# EAGLE library part DAC8168ICPW (library dac8168-16)
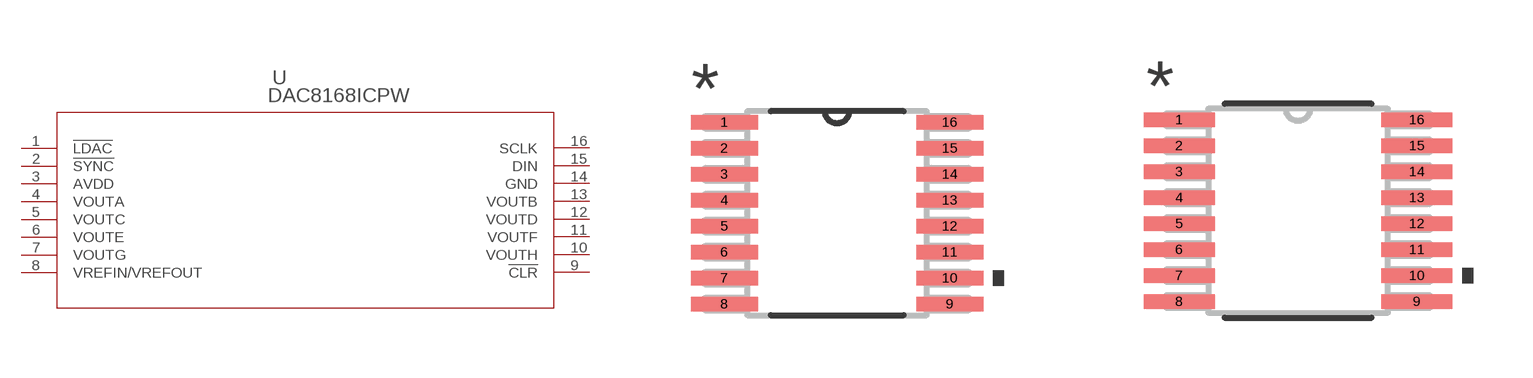
[diagram p0: symbol with the pads of PW16; footprints PW16, PW16-M]

Designator prefix U

## DAC8168ICPWPW16 (Copyright: Copyright (C) 2022 Ultra Librarian. All rights reserved.; Manufacturer_Part_Number: DAC8168ICPW; Mfr_Name: Texas Instruments)  [PW16]
1  !LDAC  pas
2  !SYNC  in
3  AVDD  pwr
4  VOUTA  out
5  VOUTC  out
6  VOUTE  out
7  VOUTG  out
8  VREFIN/VREFOUT
9  !CLR  in
10  VOUTH  out
11  VOUTF  out
12  VOUTD  out
13  VOUTB  out
14  GND  pwr
15  DIN  in
16  SCLK  in

## DAC8168ICPWPW16-M (Copyright: Copyright (C) 2022 Ultra Librarian. All rights reserved.; Manufacturer_Part_Number: DAC8168ICPW; Mfr_Name: Texas Instruments)  [PW16-M]
Pads as for PW16

## DAC8168ICPWPW16-L (Copyright: Copyright (C) 2022 Ultra Librarian. All rights reserved.; Manufacturer_Part_Number: DAC8168ICPW; Mfr_Name: Texas Instruments)  [PW16-L]
Pads as for PW16

## Footprint PW16 (pad centres in mm)
smd 1.676 x 0.356: 1 -2.819,2.275; 2 -2.819,1.625; 3 -2.819,0.975; 4 -2.819,0.325; 5 -2.819,-0.325; 6 -2.819,-0.975; 7 -2.819,-1.625; 8 -2.819,-2.275; 9 2.819,-2.275; 10 2.819,-1.625; 11 2.819,-0.975; 12 2.819,-0.325; 13 2.819,0.325; 14 2.819,0.975; 15 2.819,1.625; 16 2.819,2.275

## Footprint PW16-M (pad centres in mm)
smd 1.778 x 0.356: 1 -2.972,2.275; 2 -2.972,1.625; 3 -2.972,0.975; 4 -2.972,0.325; 5 -2.972,-0.325; 6 -2.972,-0.975; 7 -2.972,-1.625; 8 -2.972,-2.275; 9 2.972,-2.275; 10 2.972,-1.625; 11 2.972,-0.975; 12 2.972,-0.325; 13 2.972,0.325; 14 2.972,0.975; 15 2.972,1.625; 16 2.972,2.275

## Footprint PW16-L (pad centres in mm)
smd 1.168 x 0.305: 1 -2.87,2.275; 2 -2.87,1.625; 3 -2.87,0.975; 4 -2.87,0.325; 5 -2.87,-0.325; 6 -2.87,-0.975; 7 -2.87,-1.625; 8 -2.87,-2.275; 9 2.87,-2.275; 10 2.87,-1.625; 11 2.87,-0.975; 12 2.87,-0.325; 13 2.87,0.325; 14 2.87,0.975; 15 2.87,1.625; 16 2.87,2.275